# Altium footprint library Test.PcbLib: 1 footprints
Each footprint in its own frame and in the unit in brackets; x right, y up, seen from the top. Pads: shape width x height; smd on the part's side, far side on the other; paste and mask are expansions set on the pad; w line width, h text height; cw(c..) or ccw(c..) is an arc to the next point about the centre after c.
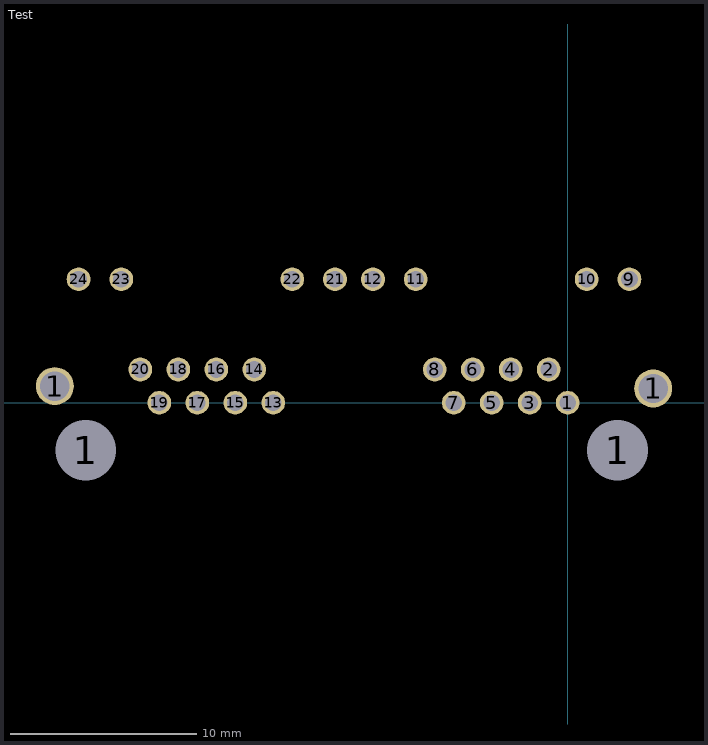
[diagram p0: the footprint, top view; thin cyan lines are the x and y axes]

## Test [mil]
pads (28):
  round 80 hole 62 mask+0: 1(-1080,35) 1(180,30)
  round 118 hole 128 unplated mask+0: 1(-1015,-100) 1(105,-100)
  round 50 hole 35 mask+0: 1(0,0) 2(-40,70) 3(-80,0) 4(-120,70) 5(-160,0) 6(-200,70) 7(-240,0) 8(-280,70) 9(130,260) 10(40,260) 11(-320,260) 12(-410,260) 13(-620,0) 14(-660,70) 15(-700,0) 16(-740,70) 17(-780,0) 18(-820,70) 19(-860,0) 20(-900,70) 21(-490,260) 22(-580,260) 23(-940,260) 24(-1030,260)
3D body "M-RJHSE-5381-02-REVT1.STEP": height 578.42, standoff -163.5, extent -1147.83,-331.49 248.02,303.74